# Altium footprint library L50T-SSU.PcbLib: 52 footprints (part 2 of 4)
Each footprint in its own frame and in the unit in brackets; x right, y up, seen from the top. Pads: shape width x height; smd on the part's side, far side on the other; paste and mask are expansions set on the pad; w line width, h text height; cw(c..) or ccw(c..) is an arc to the next point about the centre after c.
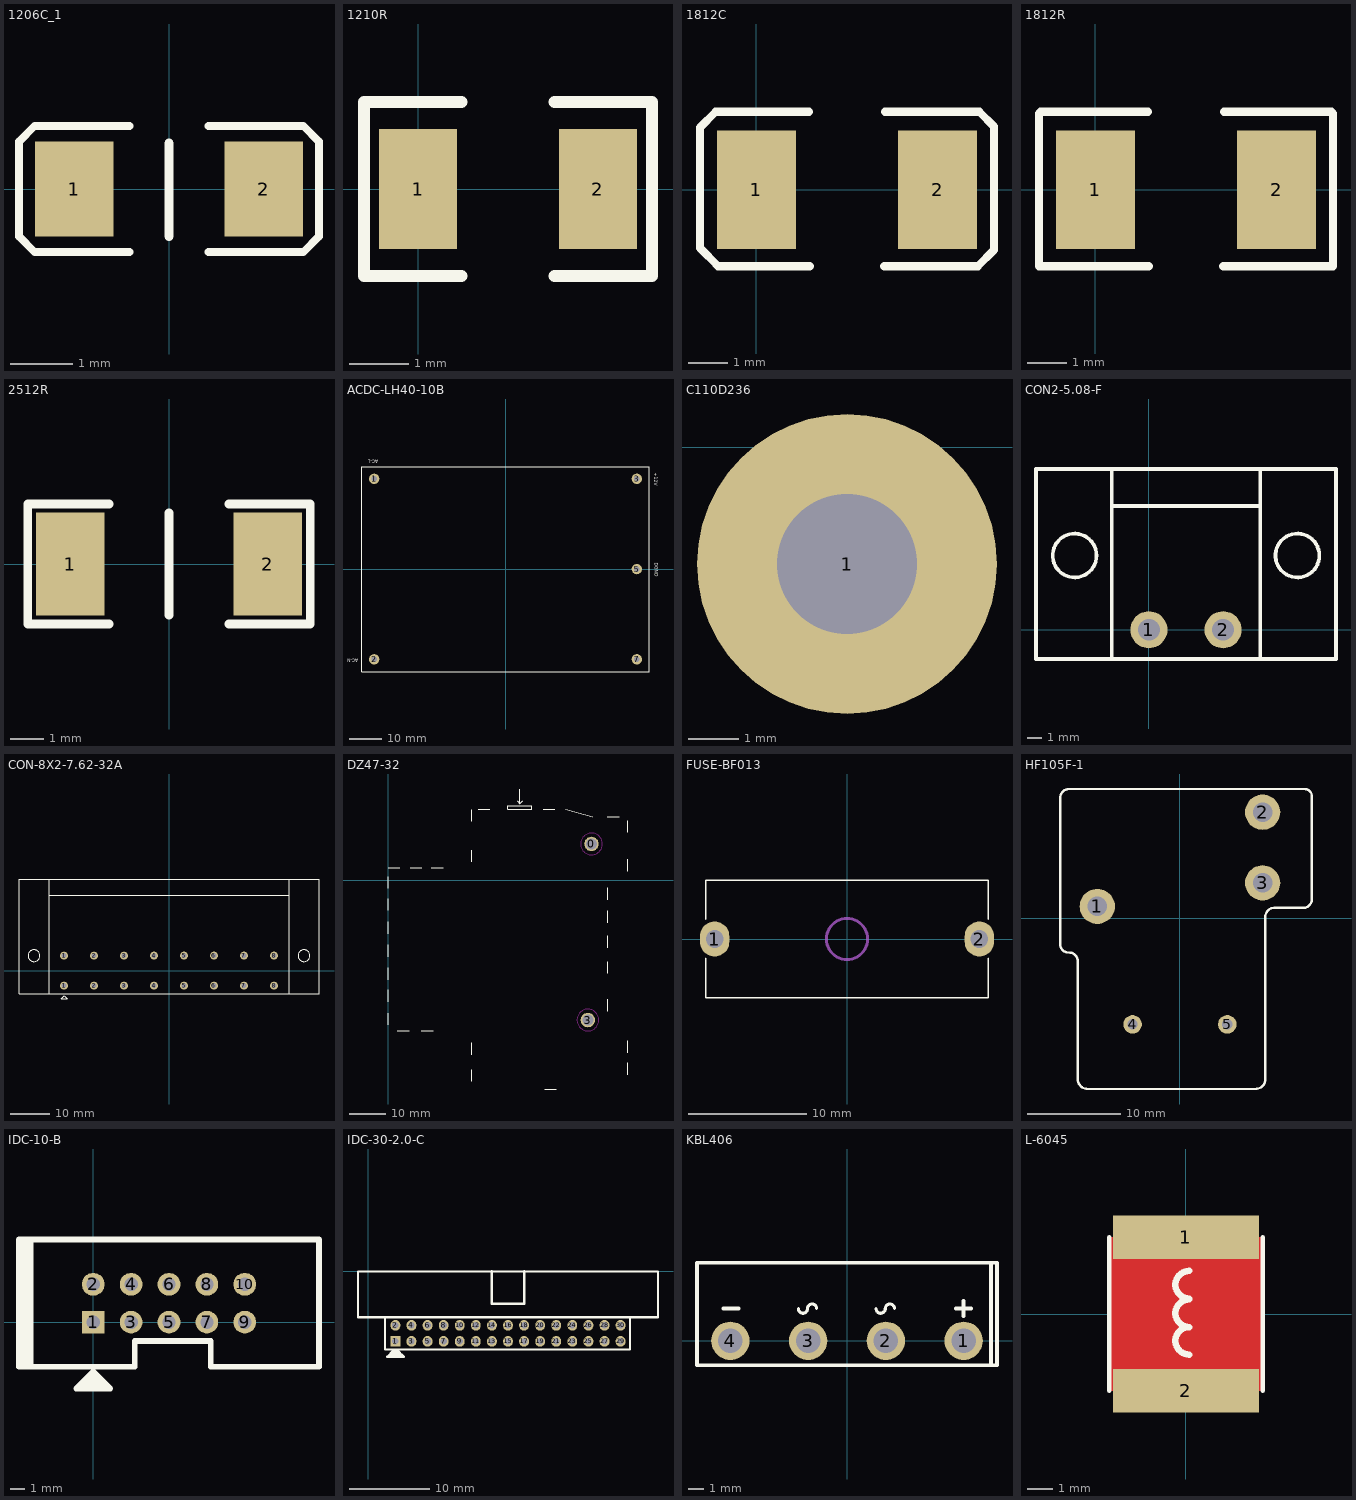
[diagram p1: the footprints below, top view; thin cyan lines are the x and y axes]

## 1206C_1 [mil]
pads (2):
  rect 50x60 smd: 1(-60,0) 2(60,0)
Top Overlay:
  lines w5: -25,-40 -85,-40 -95,-30 -95,30 -85,40 -25,40 ; 25,-40 85,-40 95,-30 95,30 85,40 25,40
  lines w6: 0,-30 0,29
3D body "SW3dPS-1206 SMD Capacitor.STEP": height 39.45, standoff 0, extent -62.99,-31.49 63,31.5

## 1210R [mil]
height 75
pads (2):
  rect 52x80 smd: 1(0,0) 2(120,0)
Top Overlay:
  lines w8: 29,-58 -36,-58 -36,58 29,58 ; 91,-58 156,-58 156,58 91,58
3D body "User Library-RESC3225X06N.STEP": height 21.65, standoff 0, extent -2.99,-49.21 123,49.22

## 1812C [mm]
height 2.032
pads (2):
  rect 2x3 smd: 1(0,0) 2(4.572,0)
Top Overlay:
  lines w0.203: -1.411,-1.485 -1.016,-1.88 ; -0.914,-1.93 1.346,-1.93 -0.965,-1.93 -1.422,-1.473 -1.422,1.575 ; -0.89,1.97 1.332,1.97 ; 1.016,1.97 1.332,1.97 ; 3.556,1.97 3.24,1.97 ; 5.462,1.97 3.24,1.97 ; 5.486,-1.93 3.226,-1.93 5.588,-1.93 5.983,-1.536 ; 5.994,-1.524 5.994,1.6 5.625,1.97 3.24,1.97 ; -1.422,1.575 -1.028,1.97 ; -1.422,1.575 -1.028,1.97 ; -1.028,1.97 1.332,1.97

## 1812R [mm]
height 2.032
pads (2):
  rect 2x3 smd: 1(0,0) 2(4.572,0)
Top Overlay:
  lines w0.203: -0.914,-1.93 1.346,-1.93 ; -0.89,1.97 1.332,1.97 ; 1.016,1.97 1.332,1.97 ; 3.556,1.97 3.24,1.97 ; 5.462,1.97 3.24,1.97 ; 5.486,-1.93 3.226,-1.93 ; -1.422,-1.93 1.346,-1.93 ; -1.422,-1.93 -1.422,1.93 -1.383,1.97 1.332,1.97 ; -1.422,-1.93 1.346,-1.93 ; 3.226,-1.93 5.994,-1.93 ; 3.226,-1.93 5.994,-1.93 ; 3.24,1.97 5.955,1.97 5.994,1.93 5.994,-1.93

## 2512R [mil]
pads (2):
  rect 80x120 smd: 1(-115,0) 2(115,0)
Top Overlay:
  lines w10: -70,-70 -165,-70 -165,70 -70,70 ; 0,-60 0,60 ; 70,-70 165,-70 165,70 70,70
3D body "User Library-RESC6432X06.STEP": height 23.62, standoff 0, extent -125.98,-62.99 125.99,63

## ACDC-LH40-10B [mm]
pads (5):
  round 3.2 hole 1.7: 1(-40.65,27.94) 2(-40.65,-27.94) 3(40.65,27.94) 5(40.65,0) 7(40.65,-27.94)
Top Overlay:
  lines w0.254: -44.5,-31.75 -44.5,31.75 44.5,31.75 44.5,-31.75 -44.5,-31.75
  text "+12V" at 46.101,29.743 h1.02
  text "DGND" at 46.177,1.905 h1.02
  text "AC-N" at -45.669,-27.711 h1.02
  text "AC-L" at -39.345,33.884 h1.02
3D body: height 25.4, standoff 0, extent -44.499,-31.749 44.499,31.749

## C110D236 [mm]
pads (1):
  round 6 hole 2.8: 1(-7.62,-2.337)

## CON2-5.08-F [mil]
pads (2):
  round 100 hole 59: 1(0,0) 2(200,0)
Top Overlay:
  circle w10: c400,200 r59.06
  circle w10: c-200,200 r59.06
  lines w10: -100,333.07 300,333.07 ; -100,-78.74 -303.94,-78.74 -303.94,433.07 -100,433.07 ; -100,-78.74 -100,433.07 ; -100,-78.74 300,-78.74 ; -100,433.07 300,433.07 ; 300,-78.74 503.94,-78.74 503.94,433.07 300,433.07 ; 300,-78.74 300,433.07

## CON-8X2-7.62-32A [mil]
height 7.87
pads (16):
  round 80 hole 50: 1(-1050,-150.5) 1(-1050,149.5) 2(-750,-150.5) 2(-750,149.5) 3(-450,-150.5) 3(-450,149.5) 4(-150,-150.5) 4(-150,150.5) 5(150,-150.5) 5(150,150.5) 6(450,-150.5) 6(450,150.5) 7(750,-150.5) 7(750,150.5) 8(1050,-150.5) 8(1050,150.5)
Top Overlay:
  circle w10: c1350,149.5 r59.06
  circle w10: c-1350,149.5 r59.06
  lines w10: -1200,755.01 900,755.01 ; 896.01,912.49 600,912.49 300,912.49 0,912.49 -1200,912.49 ; 900,912.49 1200,912.49 ; -1200,-229.24 -1500,-229.24 -1500,912.49 -1200,912.49 ; -1200,-229.24 0,-229.24 300,-229.24 600,-229.24 900,-229.24 1200,-229.24 ; -1200,-229.24 -1200,912.49 ; 1200,-229.24 1200,912.49 ; 1200,-229.24 1500,-229.24 1500,912.49 1200,912.49 ; -1080,-280.5 -1050,-250.5 -1020,-280.5 -1080,-280.5
  lines w12.01: 900,755.01 1189.99,755.01 1199.99,755.01 ; 1199.99,755.01 1200,755
3D body: height 472.44, standoff 0, extent -1505,-228 1505,917.49

## DZ47-32 [mm]
pads (2):
  round 4 hole 3: 0(56,10) 3(55,-38.5)
Top Overlay:
  lines w0.254: 0,-39.814 0,-36.576 ; 0,-33.464 0,-30.226 ; 0,-27.368 0,-24.13 ; 0,-21.018 0,-17.78 ; 0,-14.668 0,-11.43 ; 0,-8.318 0,-5.08 ; 0,-2.222 0,1.016 ; 0,3.5 3.238,3.5 ; 2.54,-41.5 5.778,-41.5 ; 6.032,3.5 9.27,3.5 ; 9.144,-41.5 12.382,-41.5 ; 11.874,3.5 15.112,3.5 ; 23,-55.372 23,-52.134 ; 23,-48.006 23,-44.768 ; 23.05,5.08 23.05,8.318 ; 23.05,16.256 23.05,19.494 ; 24.762,19.5 28,19.5 ; 35.496,21.844 36.258,21.082 ; 36.258,25.146 36.258,21.082 ; 36.576,19.5 39.56,19.5 ; 37.02,21.844 36.258,21.082 ; 39.442,19.5 33.718,19.5 32.956,19.5 32.956,20.574 39.56,20.574 39.56,19.618 39.5,19.558 ; 42.672,19.5 45.91,19.5 ; 43.116,-57.5 46.354,-57.5 ; 48.958,19.5 56.403,17.526 ; 60.388,17.5 63.626,17.5 ; 60.5,-36.068 60.5,-32.83 ; 60.5,-25.654 60.5,-22.416 ; 60.5,-18.542 60.5,-15.304 ; 60.5,-11.684 60.5,-8.446 ; 60.5,-5.334 60.5,-2.096 ; 65.976,-47.498 65.976,-44.26 ; 65.976,2.54 65.976,5.778 ; 66,-53.53 66,-50.292 ; 66,13.208 66,16.446
Bottom Overlay:
  circle w0.254: c56,10 r3
  circle w0.254: c55,-38.5 r3
Keep-Out Layer:
  circle w0.254: c55,-38.5 r3
  circle w0.254: c56,10 r3

## FUSE-BF013 [mm]
pads (2):
  oval 2.5x3 hole 1.5: 1(-11.25,0) 2(11.25,0)
Top Overlay:
  lines w0.152: -12,-1.651 -12,-5 12,-5 12,-1.651 ; -12,1.702 -12,5 12,5 12,1.702
Mechanical 13:
  circle w0.254: c0,0 r1.75
3D body: height 12, standoff 0, extent -12.076,-5.076 12.076,5.076

## HF105F-1 [mm]
pads (5):
  round 3.8 hole 2.1: 1(-8.9,1.28) 2(8.9,11.42) 3(8.9,3.82)
  round 2 hole 1.1: 4(-5.1,-11.42) 5(5.1,-11.42)
Top Overlay:
  lines w0.254: -12.9,12.904 cw(c-11.923,12.943) -11.962,13.92 13.438,13.92 cw(c13.438,13.158) 14.2,13.158 14.2,1.982 cw(c13.261,2.059) 13.184,1.12 10.136,1.12 ccw(c10.126,0.194) 9.2,0.204 ; -12.9,12.982 -12.9,-2.844 ccw(c-12.013,-2.793) -11.962,-3.68 ; -11.95,-3.68 cw(c-11.946,-4.626) -11,-4.622 -11,-17.268 ; -11,-17.322 ccw(c-9.936,-17.316) -9.93,-18.38 ; -9.888,-18.38 8.104,-18.38 ccw(c8.123,-17.303) 9.2,-17.322 ; 9.2,-17.284 9.2,0.284
3D body "继电器HF105F-1.STEP": height 20, standoff -3.2, extent -12.9,-18.38 14.2,13.92

## IDC-10-B [mil]
pads (10):
  rect 60x60 hole 35: 1(0,0)
  round 60 hole 35: 2(0,100) 3(100,0) 4(100,100) 5(200,0) 6(200,100) 7(300,0) 8(300,100) 9(400,0) 10(400,100)
Top Overlay:
  lines w15: -185,-118 -185,218 ; -175,-118 -175,218 ; -165,-118 -165,218 ; -34.24,-164.24 -30.76,-164.24 -20,-175 ; -27.15,-157.15 -22.85,-157.15 -5,-175 ; -16.42,-146.42 -16.42,-148.58 10,-175 ; -9.32,-139.32 -5.68,-139.32 30,-175 ; -196,-118 109.84,-118 109.84,-50 309.84,-50 309.84,-118 596,-118 596,218 -196,218 -196,-118 ; -45,-175 45,-175 0,-130 -45,-175
3D body "User Library-IDC-10M.STEP": height 366.14, standoff -122.05, extent -198.6,-124.23 600.61,234.04

## IDC-30-2.0-C [mm]
pads (30):
  rect 1.219x1.321 hole 0.8: 1(3.38,-8.7)
  oval 1.219x1.321 hole 0.8: 2(3.38,-6.7) 3(5.38,-8.7) 4(5.38,-6.7) 5(7.38,-8.7) 6(7.38,-6.7) 7(9.38,-8.7) 8(9.38,-6.7) 9(11.38,-8.7) 10(11.38,-6.7) 11(13.38,-8.7) 12(13.38,-6.7) 13(15.38,-8.7) 14(15.38,-6.7) 15(17.38,-8.7) 16(17.38,-6.7) 17(19.38,-8.7) 18(19.38,-6.7) 19(21.38,-8.7) 20(21.38,-6.7) 21(23.38,-8.7) 22(23.38,-6.7) 23(25.38,-8.7) 24(25.38,-6.7) 25(27.38,-8.7) 26(27.38,-6.7) 27(29.38,-8.7) 28(29.38,-6.7) 29(31.38,-8.7) 30(31.38,-6.7)
Top Overlay:
  lines w0.254: -1.27,-5.7 36.03,-5.7 ; -1.27,-5.684 -1.27,0.016 ; -1.27,0 36.03,0 ; 2.115,-9.716 32.557,-9.716 ; 2.115,-9.656 2.115,-5.7 ; 32.557,-9.71 32.557,-5.7 ; 36.03,-5.684 36.03,0.016
  lines w0.305: 2.745,-10.351 4.142,-10.351 4.269,-10.478 ; 2.808,-10.16 3.951,-10.16 ; 2.999,-9.97 3.634,-9.97 ; 15.38,0 15.38,-4 19.38,-4 19.38,0 ; 2.364,-10.605 3.253,-9.716 3.507,-9.716 4.396,-10.605 4.015,-10.605 2.364,-10.605

## KBL406 [mm]
pads (4):
  round 2.5 hole 1.6: 1(7.62,0) 2(2.54,0) 3(-2.54,0) 4(-7.62,0)
Top Overlay:
  lines w0.203: -3.18,2.1 ccw(c-2.88,2.1) -2.58,2.1 cw(c-2.28,2.1) -1.98,2.1 ; 1.9,2.1 ccw(c2.2,2.1) 2.5,2.1 cw(c2.8,2.1) 3.1,2.1
  lines w0.254: -8.08,2.1 -7.08,2.1 ; 7.12,2.1 8.12,2.1 ; 7.62,1.6 7.62,2.6 ; 9.4,-1.5 9.4,5.1 ; -9.8,-1.6 -9.8,5.1 9.8,5.1 9.8,-1.6 -9.8,-1.6
3D body: height 10, standoff 0, extent -9.927,-1.727 9.927,5.227

## L-6045 [mm]
height 4.5
pads (2):
  rect 5.7x1.7 smd: 1(0,3) 2(0,-3)
Top Layer:
  pour cut-out: -3,-3 -3,3 3,3 3,-3
Top Overlay:
  lines w0.178: -3,-3 -3,3 ; 3,-3 3,3
  lines w0.254: 0.127,-1.586 cw(c0.127,-1.047) 0.127,-0.508 cw(c0.127,0.031) 0.127,0.57 ; 0.127,0.604 cw(c0.127,1.143) 0.127,1.682